# Altium footprint library gyro-stable.PcbLib: 24 footprints (part 1 of 2)
Each footprint in its own frame and in the unit in brackets; x right, y up, seen from the top. Pads: shape width x height; smd on the part's side, far side on the other; paste and mask are expansions set on the pad; w line width, h text height; cw(c..) or ccw(c..) is an arc to the next point about the centre after c.
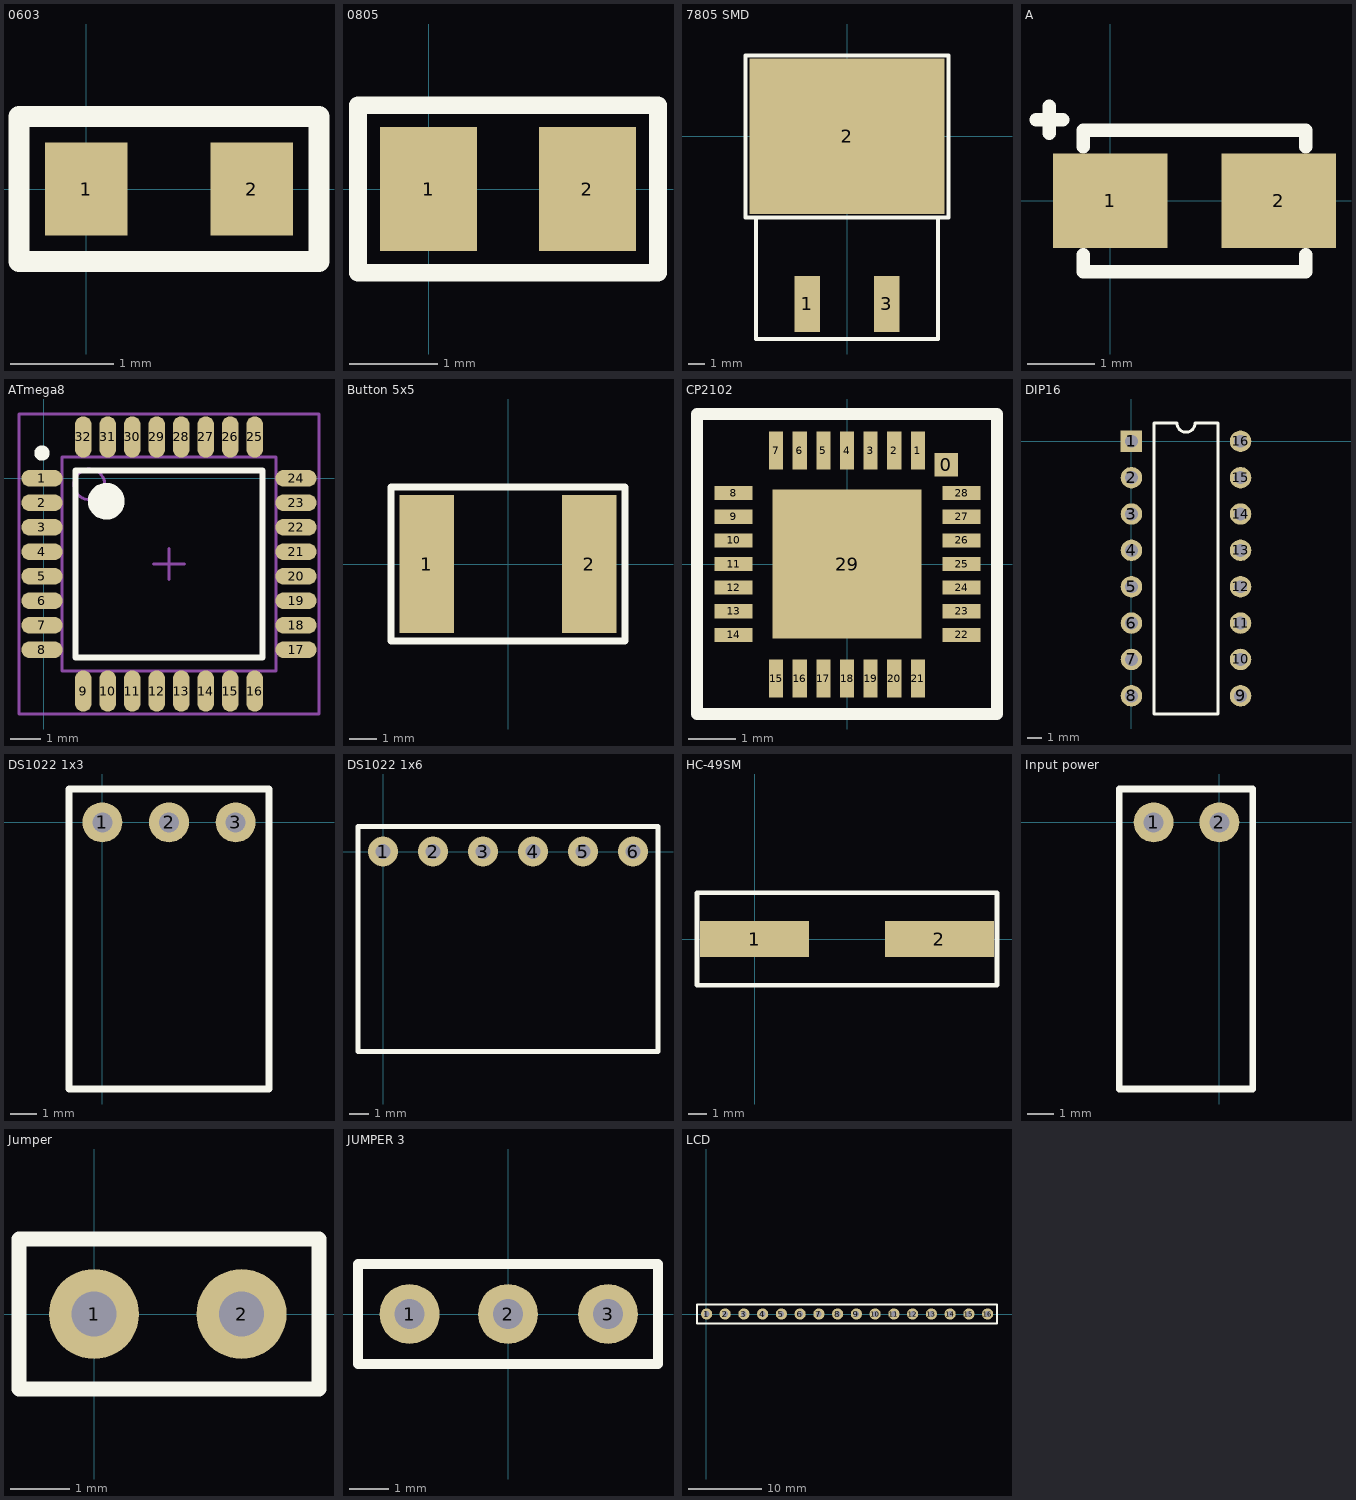
[diagram p0: the footprints below, top view; thin cyan lines are the x and y axes]

## 0603 [mm]
pads (2):
  rect 0.8x0.9 smd: 1(0,0) 2(1.6,0)
Top Silk:
  lines w0.2: -0.65,-0.7 2.25,-0.7 2.25,0.7 0.8,0.7 -0.65,0.7 -0.65,-0.7
3D body "res0603r.STEP": height 0.45, standoff 0, extent 0,-0.4 1.6,0.4

## 0805 [mm]
pads (2):
  rect 1.1x1.4 smd: 1(0,0) 2(1.8,0)
Top Silk:
  lines w0.2: -0.8,-0.95 2.6,-0.95 2.6,0.95 0.9,0.95 -0.8,0.95 -0.8,-0.95
3D body "CAPC0805.STEP": height 0.9, standoff 0, extent -0.4,-0.678 2.2,0.678

## 7805 SMD [mm]
pads (3):
  rect 1.6x3.5 smd: 1(-2.5,-10.5) 3(2.5,-10.5)
  rect 12.2x9.75 smd: 2(0,0)
Top Silk:
  lines w0.254: -5.715,-5.08 5.715,-5.08 ; -5.715,-5.08 -5.715,-12.7 5.715,-12.7 5.715,-5.08 ; -5.715,-5.08 -6.35,-5.08 -6.35,5.08 -0.635,5.08 6.35,5.08 6.35,-5.08 5.715,-5.08
3D body "TO-263AB.stp": height 4.8, standoff 0, extent -5.281,-11.65 5.361,4.2

## A [mm]
pads (2):
  rect 1.7x1.4 smd: 1(0,0) 2(2.5,0)
Top Silk:
  lines w0.2: -1.1,1.2 -0.7,1.2 ; -0.9,1 -0.9,1.4 ; -0.4,-0.8 -0.4,-1.05 2.9,-1.05 2.9,-0.8 ; -0.4,0.8 -0.4,1.05 1.25,1.05 2.9,1.05 2.9,0.8
3D body "tantalum 10uF.stp": height 1.6, standoff -0.1, extent -0.475,-0.825 2.925,0.775

## ATmega8 [mm]
pads (32):
  oval 1.35x0.55 smd: 1(-0.063,0.006) 2(-0.063,-0.794) 3(-0.063,-1.594) 4(-0.063,-2.394) 5(-0.063,-3.194) 6(-0.063,-3.994) 7(-0.063,-4.794) 8(-0.063,-5.594) 17(8.237,-5.594) 18(8.237,-4.794) 19(8.237,-3.994) 20(8.237,-3.194) 21(8.237,-2.394) 22(8.237,-1.594) 23(8.237,-0.794) 24(8.237,0.006)
  oval 0.55x1.35 smd: 9(1.287,-6.944) 10(2.087,-6.944) 11(2.887,-6.944) 12(3.687,-6.944) 13(4.487,-6.944) 14(5.287,-6.944) 15(6.087,-6.944) 16(6.887,-6.944) 25(6.887,1.356) 26(6.087,1.356) 27(5.287,1.356) 28(4.487,1.356) 29(3.687,1.356) 30(2.887,1.356) 31(2.087,1.356) 32(1.287,1.356)
Top Silk:
  circle w0.25: c-0.063,0.831 r0.125
  circle w0.6: c2.037,-0.744 r0.3
  lines w0.2: 1.037,-5.844 1.037,0.256 7.137,0.256 7.137,-5.844 1.037,-5.844
Mechanical 13:
  circle w0.1: c1.487,-0.194 r0.5
  lines w0.1: 0.587,-6.294 0.587,0.706 7.587,0.706 7.587,-6.294 0.587,-6.294
Mechanical 15:
  lines w0.1: 3.587,-2.794 4.587,-2.794 ; 4.087,-3.294 4.087,-2.294 ; -0.813,-7.694 -0.813,2.106 8.987,2.106 8.987,-7.694 -0.813,-7.694
3D body "TQFP-32.STEP": height 1.08, standoff -0.02, extent -0.413,-7.294 8.587,1.706

## Button 5x5 [mm]
pads (2):
  rect 2x5.08 smd: 1(-3,0) 2(3,0)
Top Silk:
  lines w0.254: -4.325,-2.85 -4.325,2.85 4.325,2.85 4.325,-2.85 -4.325,-2.85
3D body "Tactile_SMD_5x5mm.STEP": height 1.52, standoff 0, extent -3.25,-2.54 3.25,2.54

## CP2102 [mm] "QFN-28"
pads (30):
  rect 0.5x0.5 smd: 0(2.1,2.1)
  rect 0.3x0.8 smd: 1(1.5,2.4) 2(1,2.4) 3(0.5,2.4) 4(0,2.4) 5(-0.5,2.4) 6(-1,2.4) 7(-1.5,2.4) 15(-1.5,-2.425) 16(-1,-2.425) 17(-0.5,-2.425) 18(0,-2.425) 19(0.5,-2.425) 20(1,-2.425) 21(1.5,-2.425)
  rect 0.8x0.3 smd: 8(-2.4,1.5) 9(-2.4,1) 10(-2.4,0.5) 11(-2.4,0) 12(-2.4,-0.5) 13(-2.4,-1) 14(-2.4,-1.5) 22(2.425,-1.5) 23(2.425,-1) 24(2.425,-0.5) 25(2.425,0) 26(2.425,0.5) 27(2.425,1) 28(2.425,1.5)
  rect 3.15x3.15 smd: 29(0,0)
Top Silk:
  lines w0.254: -3.175,-3.175 3.175,-3.175 3.175,3.175 -0.635,3.175 -3.175,3.175 -3.175,-3.175
3D body "QFN-28 5x5mm.stp": height 1.05, standoff 0, extent -2.5,-2.5 2.5,2.5

## DIP16 [mm]
pads (16):
  rect 1.5x1.5 hole 0.9: 1(0,0)
  round 1.5 hole 0.9: 2(0,-2.54) 3(0,-5.08) 4(0,-7.62) 5(0,-10.16) 6(0,-12.7) 7(0,-15.24) 8(0,-17.78) 9(7.62,-17.78) 10(7.62,-15.24) 11(7.62,-12.7) 12(7.62,-10.16) 13(7.62,-7.62) 14(7.62,-5.08) 15(7.62,-2.54) 16(7.62,0)
Top Silk:
  lines w0.2: 1.585,-19.05 1.585,1.27 3.175,1.27 ccw(c3.81,1.27) 4.445,1.27 6.035,1.27 6.035,-19.05 1.585,-19.05
3D body "DIP16.STEP": height 4.7, standoff -2.6, extent -0.2,-18.892 7.67,1.068

## DS1022 1x3 [mil]
pads (3):
  round 60 hole 30: 1(0,0) 2(100,0) 3(200,0)
Top Silk:
  lines w10: -50,-400 250,-400 250,50 50,50 -50,50 -50,-400
3D body "DS1022-1x3RD61.stp": height 98.43, standoff -118.11, extent -49.99,-394.88 250.01,12.6

## DS1022 1x6 [mil]
pads (6):
  round 60 hole 30: 1(0,0) 2(100,0) 3(200,0) 4(300,0) 5(400,0) 6(500,0)
Top Silk:
  lines w10: -50,-400 550,-400 550,50 175,50 -50,50 -50,-400
3D body "DS1022-1x6RD61.stp": height 98.43, standoff -118.11, extent -50,-396.74 550,10.74

## ECAP SMD [mm]

## HC-49SM [mm]
pads (2):
  rect 6x2 smd: 1(0,0) 2(10.16,0)
Top Silk:
  lines w0.254: -3.175,-2.54 13.335,-2.54 13.335,2.54 -3.175,2.54 -3.175,-2.54
3D body "HC-49SM.stp": height 4, standoff 0, extent -1.62,-2.4 11.78,2.4

## Input power [mil]
pads (2):
  round 60 hole 30: 1(-98.49,-0.07) 2(-0.06,-0.07)
Top Silk:
  lines w10: -150,-400 -150,50 -50,50 50,50 50,-400 -150,-400
3D body "DS1022-1x2RD61.stp": height 98.43, standoff -118.11, extent -150,-394.88 50,12.6

## Jumper [mil]
pads (2):
  round 60 hole 30: 1(0,0) 2(98.43,0)
Top Silk:
  lines w10: -50,-50 -50,50 150,50 150,-50 -50,-50
3D body "DS1021-1x2S61.stp": height 338.58, standoff -118.11, extent -49.99,-49.99 150.01,50.01

## JUMPER 3 [mil]
pads (3):
  round 60 hole 30: 1(-98.43,0) 2(0,0) 3(100,0)
Top Silk:
  lines w10: -150,-50 -150,50 150,50 150,-50 -150,-50
3D body "DS1021-1x3S61.stp": height 338.58, standoff -118.11, extent -149.99,-49.99 150.01,50.01

## LCD [mil]
pads (16):
  round 60 hole 30: 1(1.57,0) 2(100,0) 3(200,0) 4(300,0) 5(400,0) 6(500,0) 7(600,0) 8(700,0) 9(800,0) 10(900,0) 11(1000,0) 12(1100,0) 13(1200,0) 14(1300,0) 15(1400,0) 16(1500,0)
Top Silk:
  lines w10: -50,-50 1550,-50 1550,50 -50,50 -50,-50
3D body "DS1021-1x2S61.stp": height 338.58, standoff -118.11, extent 1350.01,-49.99 1550.01,50.01
3D body "DS1021-1x2S61.stp": height 338.58, standoff -118.11, extent 1150.01,-49.99 1350.01,50.01
3D body "DS1021-1x2S61.stp": height 338.58, standoff -118.11, extent 950.01,-49.99 1150.01,50.01
3D body "DS1021-1x2S61.stp": height 338.58, standoff -118.11, extent 750.01,-49.99 950.01,50.01
3D body "DS1021-1x2S61.stp": height 338.58, standoff -118.11, extent 550.01,-49.99 750.01,50.01
3D body "DS1021-1x2S61.stp": height 338.58, standoff -118.11, extent 350.01,-49.99 550.01,50.01
3D body "DS1021-1x2S61.stp": height 338.58, standoff -118.11, extent 150.01,-49.99 350.01,50.01
3D body "DS1021-1x2S61.stp": height 338.58, standoff -118.11, extent -50,-50 150,50